# Altium schematic symbol library Midcom.SchLib: 1 symbol
Pins are listed as number, name and electrical type; pins without a type are passive.

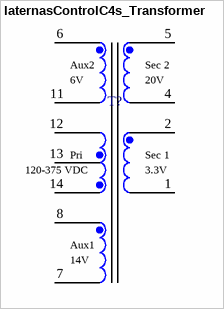
[diagram p0: symbol laternasControlC4s_Transformer]

## laternasControlC4s_Transformer
designator T?, comment Custom flyback transformer  (value not drawn)
Manufacturer: Wurth Elektronik Midcom; Part Number: 750371671; Price 1: 4.3; Price 100: 4.3; Price 1000: 4.3
footprint EPW15 (Footprint not found)
pins: 1, 2, 4, 5, 6, 7, 8, 11, 12, 13, 14
text: Aux2; Sec 2; 6V; 20V; Pri; Sec 1; 120-375 VDC; 3.3V; Aux1; 14V